# Altium schematic symbol library RS2-708_alt.SchLib: 4 symbols
Pins are listed as number, name and electrical type; pins without a type are passive.

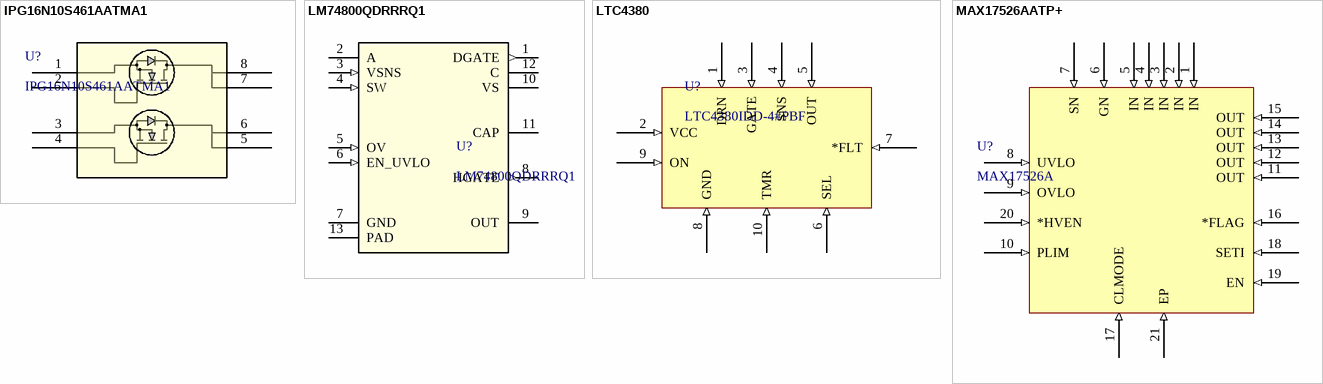
[diagram p0: symbols IPG16N10S461AATMA1 to MAX17526AATP+]

## IPG16N10S461AATMA1
designator U?
MOSFET MOSFET_(75V 120V(; Mfr_Name: Infineon; Copyright: Copyright (C) 2021 Ultra Librarian. All rights reserved.; Manufacturer_Part_Number: IPG16N10S461AATMA1; RefDes: RefDes; Type: DEV
footprint PG-TDSON-8-4_INF
pins: 1, 2, 3, 4, 5, 6, 7, 8

## LM74800QDRRRQ1
designator U?
No Description Available; Mfr_Name: Texas Instruments; Type: DEV; RefDes: RefDes; Copyright: Copyright (C) 2021 Ultra Librarian. All rights reserved.; Manufacturer_Part_Number: LM74800QDRRRQ1
footprint DRR0012E
pins: 1 DGATE (out), 2 A, 3 VSNS (in), 4 SW (in), 5 OV (in), 6 EN_UVLO (in), 7 GND (power), 8 HGATE (out), 9 OUT, 10 VS (power), 11 CAP, 12 C, 13 PAD

## LTC4380
designator U?, comment LTC4380IDD-4#PBF
Surge Suppressors Low Quiescent Current Surge Stopper with Adjustable Clamp and Retry
pins: 1 DRN (in), 2 VCC (in), 3 GATE (in), 4 SNS (in), 5 OUT (in), 6 SEL (in), 7 *FLT (in), 8 GND (in), 9 ON (in), 10 TMR (in)

## MAX17526AATP+
designator U?, comment MAX17526A
5.5V to 60V, 6A Current-Limiter with OV, / UV, Reverse Protection, and Power Limit
footprint QFN65P500X500X80_HS-21N (QFN, 20-Leads, Body 5.00x5.00mm, Pitch 0.65mm, Thermal Pad 3.25x3.25mm, IPC Medium Density)
pins: 1 IN (in), 2 IN (in), 3 IN (in), 4 IN (in), 5 IN (in), 6 GN (in), 7 SN (in), 8 UVLO (in), 9 OVLO (in), 10 PLIM (in), 11 OUT (in), 12 OUT (in), 13 OUT (in), 14 OUT (in), 15 OUT (in), 16 *FLAG (in), 17 CLMODE (in), 18 SETI (in), 19 EN (in), 20 *HVEN (in), 21 EP (in)